# Altium schematic symbol library ADR5040BRTZ.SchLib: 1 symbol
Pins are listed as number, name and electrical type; pins without a type are passive.

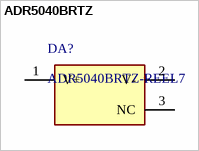
[diagram p0: symbol ADR5040BRTZ]

## ADR5040BRTZ
designator DA?, comment ADR5040BRTZ-REEL7
Precision Micropower Shunt Mode Voltage Reference, 2.048 V Output, Industrial, 3-pin SOT23 (RT-3), Reel; Manufacturer: Analog Devices; PartNumber: ADR5040BRTZ-REEL7; DatasheetVersion: Rev. B; Mounting Technology: Surface Mount; PackageDescription: 3-Pin Small Outline Transistor Package, Body 2.9 x 1.3 mm, Pitch 0.96 mm; ComponentLink4Description: URL Link1; ComponentLink1URL: http://www.analog.com/en/index.html; PackageVersion: 011909-C, 02/2009; Code_JEDEC: TO-236-AB; ComponentLink4URL: Product URL:http://www.analog.com/en/special-linear-functions/voltage-references/adr5040/products/product.html; ComponentLink2Description: Datasheet; ComponentLink1Description: Manufacturer URL; PackageReference: RT-3; ComponentLink3URL: http:/www.analog.com/static/imported-files/packages/PKG_PDF/SOT-23-3 (RT)/RT_3.pdf; ComponentLink2URL: http://www.analog.com/static/imported-files/data_sheets/ADR5040_5041_5043_5044_5045.pdf; ComponentLink3Description: Package Specification
footprint ADI-RT-3_M (SOT23, 3-Leads, Body 2.9x1.3mm, Pitch 0.96mm, IPC Low Density)
footprint ADI-RT-3_L (SOT23, 3-Leads, Body 2.9x1.3mm, Pitch 0.96mm, IPC High Density)
footprint ADI-RT-3_N (SOT23, 3-Leads, Body 2.9x1.3mm, Pitch 0.96mm, IPC Medium Density)
pins: 1 V+ (power), 2 V- (power), 3 NC